# Altium footprint library 3361P.PcbLib: 1 footprints
Each footprint in its own frame and in the unit in brackets; x right, y up, seen from the top. Pads: shape width x height; smd on the part's side, far side on the other; paste and mask are expansions set on the pad; w line width, h text height; cw(c..) or ccw(c..) is an arc to the next point about the centre after c.
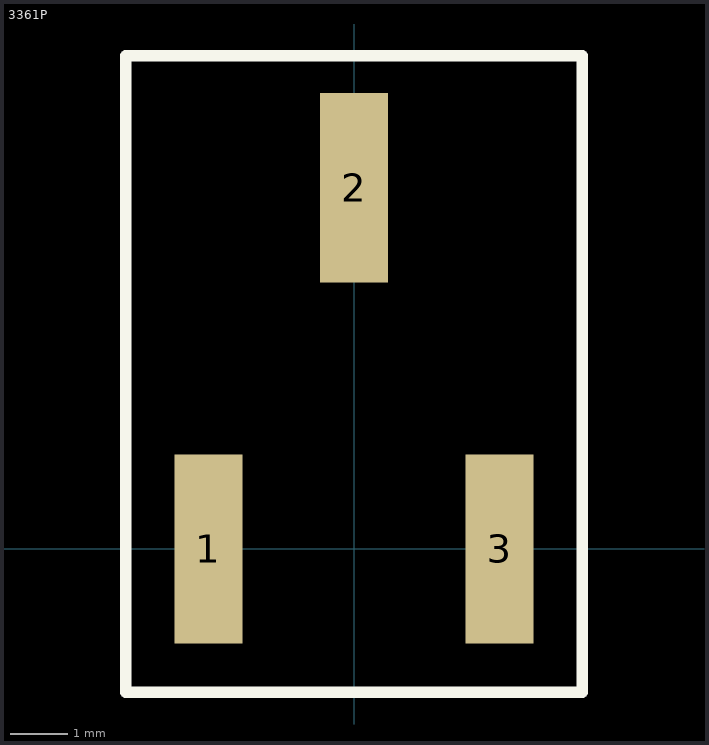
[diagram p0: the footprint, top view; thin cyan lines are the x and y axes]

## 3361P [mm]
pads (3):
  rect 1.19x3.3 smd: 1(-2.54,0) 2(0,6.3) 3(2.54,0)
Top Overlay:
  lines w0.2: -3.985,-2.5 -3.985,0 -3.985,8.6 3.985,8.6 3.985,-2.5 -3.985,-2.5